# EAGLE library part L293DD (library h-bridge)
Push-pull four channel driver with diodes.
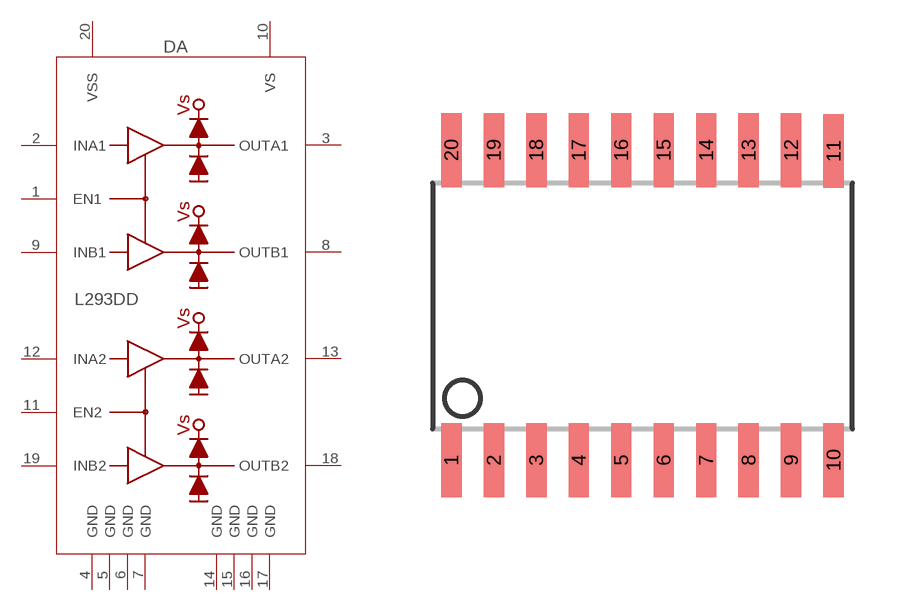
[diagram p3: symbol with the pads of POW-SO20L; footprint POW-SO20L]

Designator prefix DA

## L293DD  [POW-SO20L]
1  EN1  in
2  INA1  in
3  OUTA1  out
4  GND  pwr
5  GND  pwr
6  GND  pwr
7  GND  pwr
8  OUTB1  out
9  INB1  in
10  VS  pwr
11  EN2  in
12  INA2  in
13  OUTA2  out
14  GND  pwr
15  GND  pwr
16  GND  pwr
17  GND  pwr
18  OUTB2  out
19  INB2  in
20  VSS  pwr

## Footprint POW-SO20L (pad centres in mm)
Small Outline Package, large
smd 0.61 x 2.21: 1 -5.715,-4.636; 2 -4.445,-4.636; 3 -3.175,-4.636; 4 -1.905,-4.636; 5 -0.635,-4.636; 6 0.635,-4.636; 7 1.905,-4.636; 8 3.175,-4.636; 9 4.445,-4.636; 10 5.715,-4.636; 11 5.715,4.61; 12 4.445,4.636; 13 3.175,4.636; 14 1.905,4.636; 15 0.635,4.636; 16 -0.635,4.636; 17 -1.905,4.636; 18 -3.175,4.636; 19 -4.445,4.636; 20 -5.715,4.636